# Altium footprint library switch.PcbLib: 1 footprints
Each footprint in its own frame and in the unit in brackets; x right, y up, seen from the top. Pads: shape width x height; smd on the part's side, far side on the other; paste and mask are expansions set on the pad; w line width, h text height; cw(c..) or ccw(c..) is an arc to the next point about the centre after c.
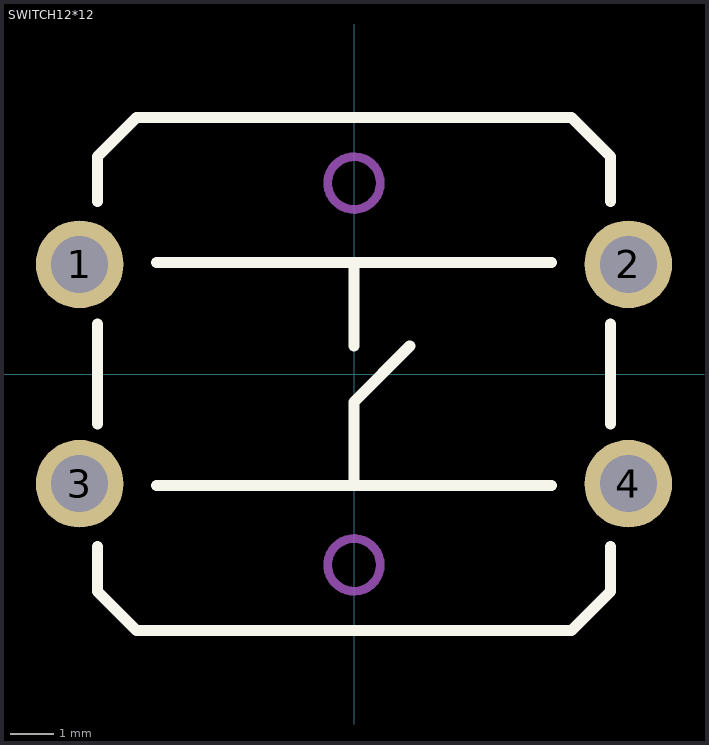
[diagram p0: the footprint, top view; thin cyan lines are the x and y axes]

## SWITCH12*12 [mm]
pads (4):
  round 2 hole 1.3: 1(-6.25,2.5) 2(6.25,2.5) 3(-6.25,-2.5) 4(6.25,-2.5)
Top Overlay:
  lines w0.254: -5.842,-3.937 -5.842,-4.953 -4.953,-5.842 4.953,-5.842 5.842,-4.953 5.842,-3.937 ; -5.842,-1.143 -5.842,1.143 ; -5.842,3.937 -5.842,4.953 -4.953,5.842 4.953,5.842 5.842,4.953 5.842,3.937 ; -4.5,-2.54 4.5,-2.54 ; -4.5,2.54 4.5,2.54 ; 0,-2.54 0,-0.635 1.27,0.635 ; 0,0.635 0,2.54 ; 5.842,-1.143 5.842,1.143
Mechanical 1:
  circle w0.2: c0,-4.35 r0.6
  circle w0.2: c0,4.35 r0.6
3D body "switch12.stp": height 6.8, standoff -3.5, extent -7.137,-5.95 7.137,5.95